# EAGLE library part DIP-BLACK-FEMALE-HEADER-VERT(2X3P-2.54) (library Seeed-OPL-Connector)
320030011
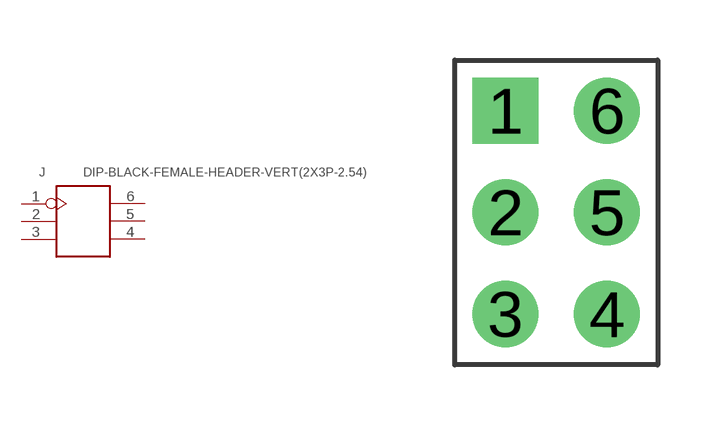
[diagram p20: symbol with the pads of H2X3-2.54; footprint H2X3-2.54]

Designator prefix J

## DIP-BLACK-FEMALE-HEADER-VERT(2X3P-2.54) (MPN: F185-1203A1BSYA1; VALUE: 2x3p-2.54)  [H2X3-2.54]
1  1
2  2
3  3
4  4
5  5
6  6

## Footprint H2X3-2.54 (pad centres in mm)
drill 0.889 pad 1.651 square: 1 -1.27,2.54
drill 0.889 pad 1.651: 2 -1.27,0; 3 -1.27,-2.54; 4 1.27,-2.54; 5 1.27,0; 6 1.27,2.54